# Altium schematic symbol library rcl.SCHLIB: 895 symbols (part 5 of 5)
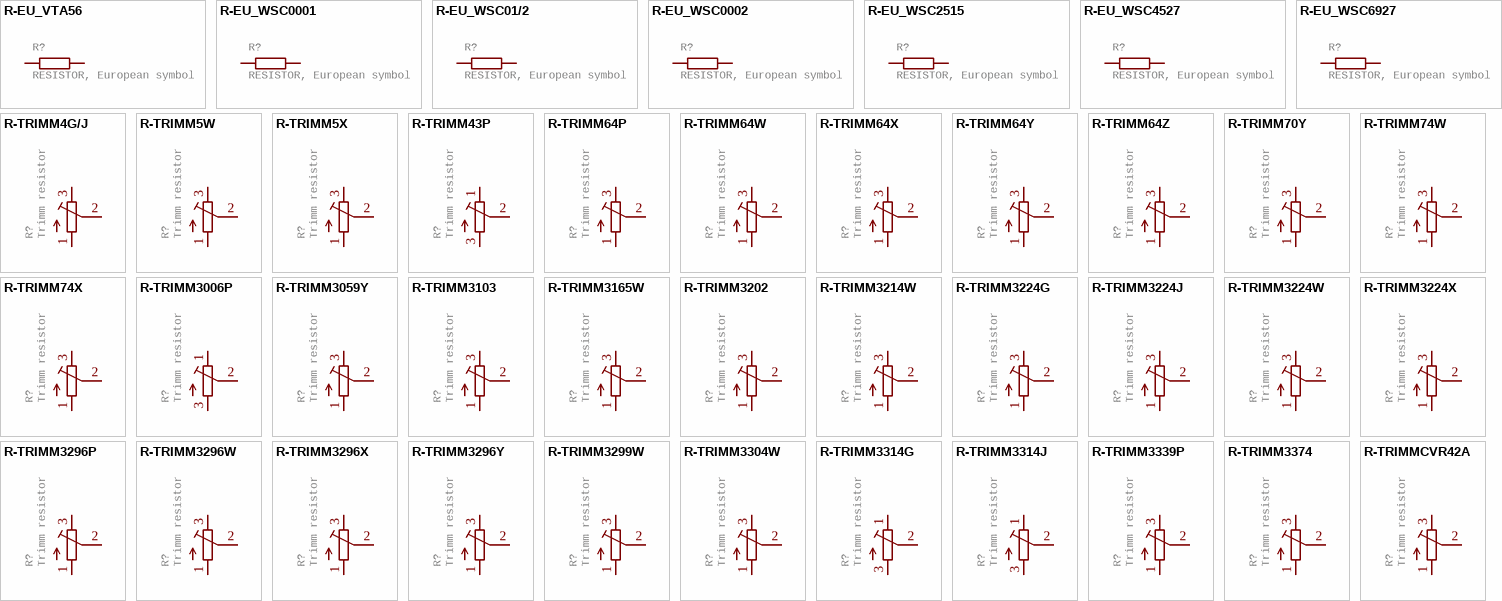
[diagram p26: symbols R-EU_VTA56 to R-TRIMMCVR42A]

## R-TRIMM3224G
designator R?, comment Trimm resistor
GateName_1: G$1; SymbolName_1: R-TRIM; DeviceName: 3224G; DeviceSetName: R-TRIMM; POPULARITY: 0; LibraryName: rcl; Package: RTRIM3224G; SPICEMODEL: X; SPICEPREFIXL: POT
footprint RTRIM3224G
pins: 1 A, 2 S, 3 E

## R-TRIMM3224J
designator R?, comment Trimm resistor
GateName_1: G$1; SymbolName_1: R-TRIM; DeviceName: 3224J; DeviceSetName: R-TRIMM; POPULARITY: 0; LibraryName: rcl; Package: RTRIM3224J; SPICEMODEL: X; SPICEPREFIXL: POT
footprint RTRIM3224J
pins: 1 A, 2 S, 3 E

## R-TRIMM3224W
designator R?, comment Trimm resistor
GateName_1: G$1; SymbolName_1: R-TRIM; DeviceName: 3224W; DeviceSetName: R-TRIMM; POPULARITY: 0; LibraryName: rcl; Package: RTRIM3224W; SPICEMODEL: X; SPICEPREFIXL: POT
footprint RTRIM3224W
pins: 1 A, 2 S, 3 E

## R-TRIMM3224X
designator R?, comment Trimm resistor
GateName_1: G$1; SymbolName_1: R-TRIM; DeviceName: 3224X; DeviceSetName: R-TRIMM; POPULARITY: 0; LibraryName: rcl; Package: RTRIM3224X; SPICEMODEL: X; SPICEPREFIXL: POT
footprint RTRIM3224X
pins: 1 A, 2 S, 3 E

## R-TRIMM3296P
designator R?, comment Trimm resistor
GateName_1: G$1; SymbolName_1: R-TRIM; DeviceName: 3296P; DeviceSetName: R-TRIMM; POPULARITY: 3; LibraryName: rcl; Package: RTRIM3296P; SPICEMODEL: X; SPICEPREFIXL: POT
footprint RTRIM3296P
pins: 1 A, 2 S, 3 E

## R-TRIMM3296W
designator R?, comment Trimm resistor
GateName_1: G$1; SymbolName_1: R-TRIM; DeviceName: 3296W; DeviceSetName: R-TRIMM; POPULARITY: 3; LibraryName: rcl; Package: RTRIM3296W; SPICEMODEL: X; SPICEPREFIXL: POT
footprint RTRIM3296W
pins: 1 A, 2 S, 3 E

## R-TRIMM3296X
designator R?, comment Trimm resistor
GateName_1: G$1; SymbolName_1: R-TRIM; DeviceName: 3296X; DeviceSetName: R-TRIMM; POPULARITY: 3; LibraryName: rcl; Package: RTRIM3296X; SPICEMODEL: X; SPICEPREFIXL: POT
footprint RTRIM3296X
pins: 1 A, 2 S, 3 E

## R-TRIMM3296Y
designator R?, comment Trimm resistor
GateName_1: G$1; SymbolName_1: R-TRIM; DeviceName: 3296Y; DeviceSetName: R-TRIMM; POPULARITY: 1; LibraryName: rcl; Package: RTRIM3296Y; SPICEMODEL: X; SPICEPREFIXL: POT
footprint RTRIM3296Y
pins: 1 A, 2 S, 3 E

## R-TRIMM3299W
designator R?, comment Trimm resistor
GateName_1: G$1; SymbolName_1: R-TRIM; DeviceName: 3299W; DeviceSetName: R-TRIMM; POPULARITY: 0; LibraryName: rcl; Package: RTRIM3299W; SPICEMODEL: X; SPICEPREFIXL: POT
footprint RTRIM3299W
pins: 1 A, 2 S, 3 E

## R-TRIMM3304W
designator R?, comment Trimm resistor
GateName_1: G$1; SymbolName_1: R-TRIM; DeviceName: 3304W; DeviceSetName: R-TRIMM; POPULARITY: 0; LibraryName: rcl; Package: RTRIM3304W; SPICEMODEL: X; SPICEPREFIXL: POT
footprint RTRIM3304W
pins: 1 A, 2 S, 3 E

## R-TRIMM3314G
designator R?, comment Trimm resistor
GateName_1: G$1; SymbolName_1: R-TRIM; DeviceName: 3314G; DeviceSetName: R-TRIMM; POPULARITY: 0; LibraryName: rcl; Package: RTRIM3314G; SPICEMODEL: X; SPICEPREFIXL: POT
footprint RTRIM3314G
pins: 1 E, 2 S, 3 A

## R-TRIMM3314J
designator R?, comment Trimm resistor
GateName_1: G$1; SymbolName_1: R-TRIM; DeviceName: 3314J; DeviceSetName: R-TRIMM; POPULARITY: 0; LibraryName: rcl; Package: RTRIM3314J; SPICEMODEL: X; SPICEPREFIXL: POT
footprint RTRIM3314J
pins: 1 E, 2 S, 3 A

## R-TRIMM3339P
designator R?, comment Trimm resistor
GateName_1: G$1; SymbolName_1: R-TRIM; DeviceName: 3339P; DeviceSetName: R-TRIMM; POPULARITY: 29; LibraryName: rcl; Package: RTRIM3339P; SPICEMODEL: X; SPICEPREFIXL: POT
footprint RTRIM3339P
pins: 1 A, 2 S, 3 E

## R-TRIMM3374
designator R?, comment Trimm resistor
GateName_1: G$1; SymbolName_1: R-TRIM; DeviceName: 3374; DeviceSetName: R-TRIMM; POPULARITY: 0; LibraryName: rcl; Package: RTRIM3374; SPICEMODEL: X; SPICEPREFIXL: POT
footprint RTRIM3374
pins: 1 A, 2 S, 3 E

## R-TRIMMCVR42A
designator R?, comment Trimm resistor
GateName_1: G$1; SymbolName_1: R-TRIM; DeviceName: CVR42A; DeviceSetName: R-TRIMM; POPULARITY: 0; LibraryName: rcl; Package: RTRIMCVR42A; SPICEMODEL: X; SPICEPREFIXL: POT
footprint RTRIMCVR42A
pins: 1 A, 2 S, 3 E

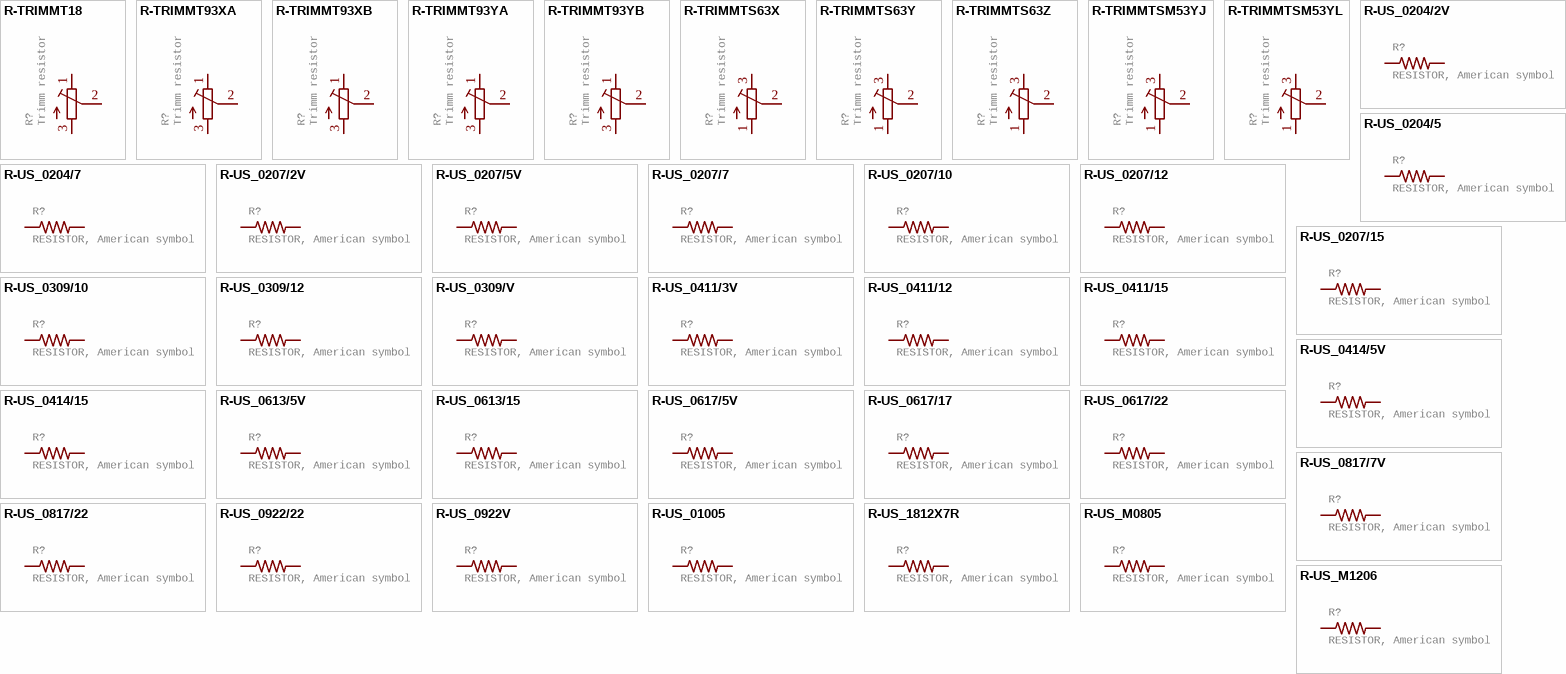
[diagram p20: symbols R-TRIMMT18 to R-US_M1206]

## R-TRIMMT18
designator R?, comment Trimm resistor
GateName_1: G$1; SymbolName_1: R-TRIM; DeviceName: T18; DeviceSetName: R-TRIMM; POPULARITY: 0; LibraryName: rcl; Package: RTRIMT18; SPICEMODEL: X; SPICEPREFIXL: POT
footprint RTRIMT18
pins: 1 E, 2 S, 3 A

## R-TRIMMT93XA
designator R?, comment Trimm resistor
GateName_1: G$1; SymbolName_1: R-TRIM; DeviceName: T93XA; DeviceSetName: R-TRIMM; POPULARITY: 0; LibraryName: rcl; Package: RTRIMT93XA; SPICEMODEL: X; SPICEPREFIXL: POT
footprint RTRIMT93XA
pins: 1 E, 2 S, 3 A

## R-TRIMMT93XB
designator R?, comment Trimm resistor
GateName_1: G$1; SymbolName_1: R-TRIM; DeviceName: T93XB; DeviceSetName: R-TRIMM; POPULARITY: 0; LibraryName: rcl; Package: RTRIMT93XB; SPICEMODEL: X; SPICEPREFIXL: POT
footprint RTRIMT93XB
pins: 1 E, 2 S, 3 A

## R-TRIMMT93YA
designator R?, comment Trimm resistor
GateName_1: G$1; SymbolName_1: R-TRIM; DeviceName: T93YA; DeviceSetName: R-TRIMM; POPULARITY: 2; LibraryName: rcl; Package: RTRIMT93YA; SPICEMODEL: X; SPICEPREFIXL: POT
footprint RTRIMT93YA
pins: 1 E, 2 S, 3 A

## R-TRIMMT93YB
designator R?, comment Trimm resistor
GateName_1: G$1; SymbolName_1: R-TRIM; DeviceName: T93YB; DeviceSetName: R-TRIMM; POPULARITY: 0; LibraryName: rcl; Package: RTRIMT93YB; SPICEMODEL: X; SPICEPREFIXL: POT
footprint RTRIMT93YB
pins: 1 E, 2 S, 3 A

## R-TRIMMTS63X
designator R?, comment Trimm resistor
GateName_1: G$1; SymbolName_1: R-TRIM; DeviceName: TS63X; DeviceSetName: R-TRIMM; POPULARITY: 0; LibraryName: rcl; Package: RTRIMTS63X; SPICEMODEL: X; SPICEPREFIXL: POT
footprint RTRIMTS63X
pins: 1 A, 2 S, 3 E

## R-TRIMMTS63Y
designator R?, comment Trimm resistor
GateName_1: G$1; SymbolName_1: R-TRIM; DeviceName: TS63Y; DeviceSetName: R-TRIMM; POPULARITY: 0; LibraryName: rcl; Package: RTRIMTS63Y; SPICEMODEL: X; SPICEPREFIXL: POT
footprint RTRIMTS63Y
pins: 1 A, 2 S, 3 E

## R-TRIMMTS63Z
designator R?, comment Trimm resistor
GateName_1: G$1; SymbolName_1: R-TRIM; DeviceName: TS63Z; DeviceSetName: R-TRIMM; POPULARITY: 0; LibraryName: rcl; Package: RTRIMTS63Z; SPICEMODEL: X; SPICEPREFIXL: POT
footprint RTRIMTS63Z
pins: 1 A, 2 S, 3 E

## R-TRIMMTSM53YJ
designator R?, comment Trimm resistor
GateName_1: G$1; SymbolName_1: R-TRIM; DeviceName: TSM53YJ; DeviceSetName: R-TRIMM; POPULARITY: 0; LibraryName: rcl; Package: RTRIMTSM53YJ; SPICEMODEL: X; SPICEPREFIXL: POT
footprint RTRIMTSM53YJ
pins: 1 A, 2 S, 3 E

## R-TRIMMTSM53YL
designator R?, comment Trimm resistor
GateName_1: G$1; SymbolName_1: R-TRIM; DeviceName: TSM53YL; DeviceSetName: R-TRIMM; POPULARITY: 0; LibraryName: rcl; Package: RTRIMTSM53YL; SPICEMODEL: X; SPICEPREFIXL: POT
footprint RTRIMTSM53YL
pins: 1 A, 2 S, 3 E

## R-US_0204/2V
designator R?, comment RESISTOR, American symbol
GateName_1: G$1; SymbolName_1: R-US; DeviceName: 0204/2V; DeviceSetName: R-US_; POPULARITY: 0; LibraryName: rcl; Package: 0204V; SPICEPREFIX: R
footprint 0204V
pins: 1, 2

## R-US_0204/5
designator R?, comment RESISTOR, American symbol
GateName_1: G$1; SymbolName_1: R-US; DeviceName: 0204/5; DeviceSetName: R-US_; POPULARITY: 18; LibraryName: rcl; Package: 0204/5; SPICEPREFIX: R
footprint 0204/5
pins: 1, 2

## R-US_0204/7
designator R?, comment RESISTOR, American symbol
GateName_1: G$1; SymbolName_1: R-US; DeviceName: 0204/7; DeviceSetName: R-US_; POPULARITY: 48; LibraryName: rcl; Package: 0204/7; SPICEPREFIX: R
footprint 0204/7
pins: 1, 2

## R-US_0207/2V
designator R?, comment RESISTOR, American symbol
GateName_1: G$1; SymbolName_1: R-US; DeviceName: 0207/2V; DeviceSetName: R-US_; POPULARITY: 0; LibraryName: rcl; Package: 0207/2V; SPICEPREFIX: R
footprint 0207/2V
pins: 1, 2

## R-US_0207/5V
designator R?, comment RESISTOR, American symbol
GateName_1: G$1; SymbolName_1: R-US; DeviceName: 0207/5V; DeviceSetName: R-US_; POPULARITY: 0; LibraryName: rcl; Package: 0207/5V; SPICEPREFIX: R
footprint 0207/5V
pins: 1, 2

## R-US_0207/7
designator R?, comment RESISTOR, American symbol
GateName_1: G$1; SymbolName_1: R-US; DeviceName: 0207/7; DeviceSetName: R-US_; POPULARITY: 22; LibraryName: rcl; Package: 0207/7; SPICEPREFIX: R
footprint 0207/7
pins: 1, 2

## R-US_0207/10
designator R?, comment RESISTOR, American symbol
GateName_1: G$1; SymbolName_1: R-US; DeviceName: 0207/10; DeviceSetName: R-US_; POPULARITY: 36; LibraryName: rcl; Package: 0207/10; SPICEPREFIX: R
footprint 0207/10
pins: 1, 2

## R-US_0207/12
designator R?, comment RESISTOR, American symbol
GateName_1: G$1; SymbolName_1: R-US; DeviceName: 0207/12; DeviceSetName: R-US_; POPULARITY: 3; LibraryName: rcl; Package: 0207/12; SPICEPREFIX: R
footprint 0207/12
pins: 1, 2

## R-US_0207/15
designator R?, comment RESISTOR, American symbol
GateName_1: G$1; SymbolName_1: R-US; DeviceName: 0207/15; DeviceSetName: R-US_; POPULARITY: 0; LibraryName: rcl; Package: 0207/15; SPICEPREFIX: R
footprint 0207/15
pins: 1, 2

## R-US_0309/10
designator R?, comment RESISTOR, American symbol
GateName_1: G$1; SymbolName_1: R-US; DeviceName: 0309/10; DeviceSetName: R-US_; POPULARITY: 0; LibraryName: rcl; Package: 0309/10; SPICEPREFIX: R
footprint 0309/10
pins: 1, 2

## R-US_0309/12
designator R?, comment RESISTOR, American symbol
GateName_1: G$1; SymbolName_1: R-US; DeviceName: 0309/12; DeviceSetName: R-US_; POPULARITY: 8; LibraryName: rcl; Package: 0309/12; SPICEPREFIX: R
footprint 0309/12
pins: 1, 2

## R-US_0309/V
designator R?, comment RESISTOR, American symbol
GateName_1: G$1; SymbolName_1: R-US; DeviceName: 0309/V; DeviceSetName: R-US_; POPULARITY: 0; LibraryName: rcl; Package: 0309V; SPICEPREFIX: R
footprint 0309V
pins: 1, 2

## R-US_0411/3V
designator R?, comment RESISTOR, American symbol
GateName_1: G$1; SymbolName_1: R-US; DeviceName: 0411/3V; DeviceSetName: R-US_; POPULARITY: 0; LibraryName: rcl; Package: 0411V; SPICEPREFIX: R
footprint 0411V
pins: 1, 2

## R-US_0411/12
designator R?, comment RESISTOR, American symbol
GateName_1: G$1; SymbolName_1: R-US; DeviceName: 0411/12; DeviceSetName: R-US_; POPULARITY: 0; LibraryName: rcl; Package: 0411/12; SPICEPREFIX: R
footprint 0411/12
pins: 1, 2

## R-US_0411/15
designator R?, comment RESISTOR, American symbol
GateName_1: G$1; SymbolName_1: R-US; DeviceName: 0411/15; DeviceSetName: R-US_; POPULARITY: 2; LibraryName: rcl; Package: 0411/15; SPICEPREFIX: R
footprint 0411/15
pins: 1, 2

## R-US_0414/5V
designator R?, comment RESISTOR, American symbol
GateName_1: G$1; SymbolName_1: R-US; DeviceName: 0414/5V; DeviceSetName: R-US_; POPULARITY: 0; LibraryName: rcl; Package: 0414V; SPICEPREFIX: R
footprint 0414V
pins: 1, 2

## R-US_0414/15
designator R?, comment RESISTOR, American symbol
GateName_1: G$1; SymbolName_1: R-US; DeviceName: 0414/15; DeviceSetName: R-US_; POPULARITY: 0; LibraryName: rcl; Package: 0414/15; SPICEPREFIX: R
footprint 0414/15
pins: 1, 2

## R-US_0613/5V
designator R?, comment RESISTOR, American symbol
GateName_1: G$1; SymbolName_1: R-US; DeviceName: 0613/5V; DeviceSetName: R-US_; POPULARITY: 0; LibraryName: rcl; Package: P0613V; SPICEPREFIX: R
footprint P0613V
pins: 1, 2

## R-US_0613/15
designator R?, comment RESISTOR, American symbol
GateName_1: G$1; SymbolName_1: R-US; DeviceName: 0613/15; DeviceSetName: R-US_; POPULARITY: 0; LibraryName: rcl; Package: P0613/15; SPICEPREFIX: R
footprint P0613/15
pins: 1, 2

## R-US_0617/5V
designator R?, comment RESISTOR, American symbol
GateName_1: G$1; SymbolName_1: R-US; DeviceName: 0617/5V; DeviceSetName: R-US_; POPULARITY: 0; LibraryName: rcl; Package: 0617V; SPICEPREFIX: R
footprint 0617V
pins: 1, 2

## R-US_0617/17
designator R?, comment RESISTOR, American symbol
GateName_1: G$1; SymbolName_1: R-US; DeviceName: 0617/17; DeviceSetName: R-US_; POPULARITY: 0; LibraryName: rcl; Package: 0617/17; SPICEPREFIX: R
footprint 0617/17
pins: 1, 2

## R-US_0617/22
designator R?, comment RESISTOR, American symbol
GateName_1: G$1; SymbolName_1: R-US; DeviceName: 0617/22; DeviceSetName: R-US_; POPULARITY: 0; LibraryName: rcl; Package: 0617/22; SPICEPREFIX: R
footprint 0617/22
pins: 1, 2

## R-US_0817/7V
designator R?, comment RESISTOR, American symbol
GateName_1: G$1; SymbolName_1: R-US; DeviceName: 0817/7V; DeviceSetName: R-US_; POPULARITY: 0; LibraryName: rcl; Package: P0817V; SPICEPREFIX: R
footprint P0817V
pins: 1, 2

## R-US_0817/22
designator R?, comment RESISTOR, American symbol
GateName_1: G$1; SymbolName_1: R-US; DeviceName: 0817/22; DeviceSetName: R-US_; POPULARITY: 0; LibraryName: rcl; Package: P0817/22; SPICEPREFIX: R
footprint P0817/22
pins: 1, 2

## R-US_0922/22
designator R?, comment RESISTOR, American symbol
GateName_1: G$1; SymbolName_1: R-US; DeviceName: 0922/22; DeviceSetName: R-US_; POPULARITY: 0; LibraryName: rcl; Package: 0922/22; SPICEPREFIX: R
footprint 0922/22
pins: 1, 2

## R-US_0922V
designator R?, comment RESISTOR, American symbol
GateName_1: G$1; SymbolName_1: R-US; DeviceName: 0922V; DeviceSetName: R-US_; POPULARITY: 0; LibraryName: rcl; Package: 0922V; SPICEPREFIX: R
footprint 0922V
pins: 1, 2

## R-US_01005
designator R?, comment RESISTOR, American symbol
GateName_1: G$1; SymbolName_1: R-US; DeviceName: 01005; DeviceSetName: R-US_; POPULARITY: 1; LibraryName: rcl; Package: R01005; SPICEPREFIX: R
footprint R01005
pins: 1, 2

## R-US_1812X7R
designator R?, comment RESISTOR, American symbol
GateName_1: G$1; SymbolName_1: R-US; DeviceName: 1812X7R; DeviceSetName: R-US_; POPULARITY: 0; LibraryName: rcl; Package: 1812X7R; SPICEPREFIX: R
footprint 1812X7R
pins: 1, 2

## R-US_M0805
designator R?, comment RESISTOR, American symbol
GateName_1: G$1; SymbolName_1: R-US; DeviceName: M0805; DeviceSetName: R-US_; POPULARITY: 45; LibraryName: rcl; Package: M0805; SPICEPREFIX: R
footprint M0805
pins: 1, 2

## R-US_M1206
designator R?, comment RESISTOR, American symbol
GateName_1: G$1; SymbolName_1: R-US; DeviceName: M1206; DeviceSetName: R-US_; POPULARITY: 22; LibraryName: rcl; Package: M1206; SPICEPREFIX: R
footprint M1206
pins: 1, 2

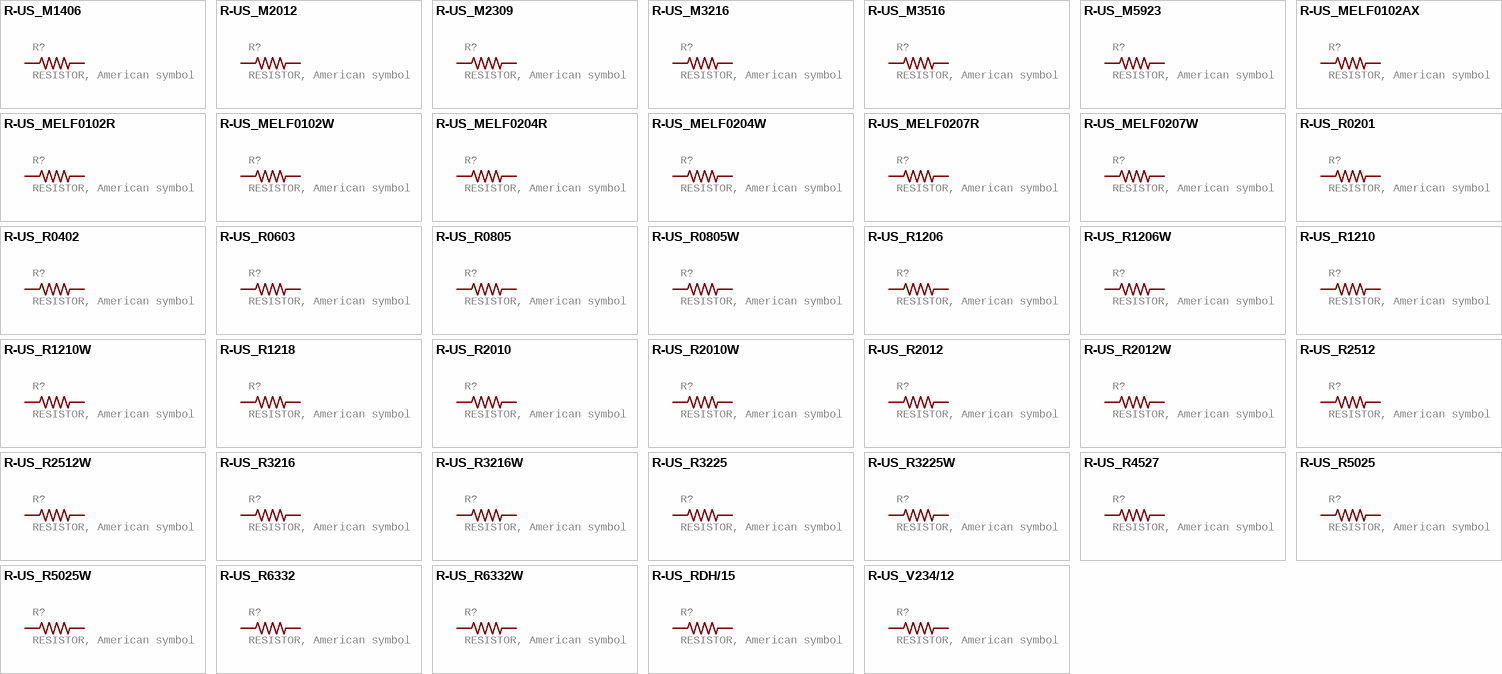
[diagram p21: symbols R-US_M1406 to R-US_V234/12]

## R-US_M1406
designator R?, comment RESISTOR, American symbol
GateName_1: G$1; SymbolName_1: R-US; DeviceName: M1406; DeviceSetName: R-US_; POPULARITY: 0; LibraryName: rcl; Package: M1406; SPICEPREFIX: R
footprint M1406
pins: 1, 2

## R-US_M2012
designator R?, comment RESISTOR, American symbol
GateName_1: G$1; SymbolName_1: R-US; DeviceName: M2012; DeviceSetName: R-US_; POPULARITY: 0; LibraryName: rcl; Package: M2012; SPICEPREFIX: R
footprint M2012
pins: 1, 2

## R-US_M2309
designator R?, comment RESISTOR, American symbol
GateName_1: G$1; SymbolName_1: R-US; DeviceName: M2309; DeviceSetName: R-US_; POPULARITY: 0; LibraryName: rcl; Package: M2309; SPICEPREFIX: R
footprint M2309
pins: 1, 2

## R-US_M3216
designator R?, comment RESISTOR, American symbol
GateName_1: G$1; SymbolName_1: R-US; DeviceName: M3216; DeviceSetName: R-US_; POPULARITY: 0; LibraryName: rcl; Package: M3216; SPICEPREFIX: R
footprint M3216
pins: 1, 2

## R-US_M3516
designator R?, comment RESISTOR, American symbol
GateName_1: G$1; SymbolName_1: R-US; DeviceName: M3516; DeviceSetName: R-US_; POPULARITY: 0; LibraryName: rcl; Package: M3516; SPICEPREFIX: R
footprint M3516
pins: 1, 2

## R-US_M5923
designator R?, comment RESISTOR, American symbol
GateName_1: G$1; SymbolName_1: R-US; DeviceName: M5923; DeviceSetName: R-US_; POPULARITY: 0; LibraryName: rcl; Package: M5923; SPICEPREFIX: R
footprint M5923
pins: 1, 2

## R-US_MELF0102AX
designator R?, comment RESISTOR, American symbol
GateName_1: G$1; SymbolName_1: R-US; DeviceName: MELF0102AX; DeviceSetName: R-US_; POPULARITY: 0; LibraryName: rcl; Package: MINI_MELF-0102AX; SPICEPREFIX: R
footprint MINI_MELF-0102AX
pins: 1, 2

## R-US_MELF0102R
designator R?, comment RESISTOR, American symbol
GateName_1: G$1; SymbolName_1: R-US; DeviceName: MELF0102R; DeviceSetName: R-US_; POPULARITY: 1; LibraryName: rcl; Package: MINI_MELF-0102R; SPICEPREFIX: R
footprint MINI_MELF-0102R
pins: 1, 2

## R-US_MELF0102W
designator R?, comment RESISTOR, American symbol
GateName_1: G$1; SymbolName_1: R-US; DeviceName: MELF0102W; DeviceSetName: R-US_; POPULARITY: 0; LibraryName: rcl; Package: MINI_MELF-0102W; SPICEPREFIX: R
footprint MINI_MELF-0102W
pins: 1, 2

## R-US_MELF0204R
designator R?, comment RESISTOR, American symbol
GateName_1: G$1; SymbolName_1: R-US; DeviceName: MELF0204R; DeviceSetName: R-US_; POPULARITY: 1; LibraryName: rcl; Package: MINI_MELF-0204R; SPICEPREFIX: R
footprint MINI_MELF-0204R
pins: 1, 2

## R-US_MELF0204W
designator R?, comment RESISTOR, American symbol
GateName_1: G$1; SymbolName_1: R-US; DeviceName: MELF0204W; DeviceSetName: R-US_; POPULARITY: 0; LibraryName: rcl; Package: MINI_MELF-0204W; SPICEPREFIX: R
footprint MINI_MELF-0204W
pins: 1, 2

## R-US_MELF0207R
designator R?, comment RESISTOR, American symbol
GateName_1: G$1; SymbolName_1: R-US; DeviceName: MELF0207R; DeviceSetName: R-US_; POPULARITY: 0; LibraryName: rcl; Package: MINI_MELF-0207R; SPICEPREFIX: R
footprint MINI_MELF-0207R
pins: 1, 2

## R-US_MELF0207W
designator R?, comment RESISTOR, American symbol
GateName_1: G$1; SymbolName_1: R-US; DeviceName: MELF0207W; DeviceSetName: R-US_; POPULARITY: 0; LibraryName: rcl; Package: MINI_MELF-0207W; SPICEPREFIX: R
footprint MINI_MELF-0207W
pins: 1, 2

## R-US_R0201
designator R?, comment RESISTOR, American symbol
GateName_1: G$1; SymbolName_1: R-US; DeviceName: R0201; DeviceSetName: R-US_; POPULARITY: 0; LibraryName: rcl; Package: R0201; SPICEPREFIX: R
footprint R0201
pins: 1, 2

## R-US_R0402
designator R?, comment RESISTOR, American symbol
GateName_1: G$1; SymbolName_1: R-US; DeviceName: R0402; DeviceSetName: R-US_; POPULARITY: 34; LibraryName: rcl; Package: R0402; SPICEPREFIX: R
footprint R0402
pins: 1, 2

## R-US_R0603
designator R?, comment RESISTOR, American symbol
GateName_1: G$1; SymbolName_1: R-US; DeviceName: R0603; DeviceSetName: R-US_; POPULARITY: 77; LibraryName: rcl; Package: R0603; SPICEPREFIX: R
footprint R0603
pins: 1, 2

## R-US_R0805
designator R?, comment RESISTOR, American symbol
GateName_1: G$1; SymbolName_1: R-US; DeviceName: R0805; DeviceSetName: R-US_; POPULARITY: 85; LibraryName: rcl; Package: R0805; SPICEPREFIX: R
footprint R0805
pins: 1, 2

## R-US_R0805W
designator R?, comment RESISTOR, American symbol
GateName_1: G$1; SymbolName_1: R-US; DeviceName: R0805W; DeviceSetName: R-US_; POPULARITY: 0; LibraryName: rcl; Package: R0805W; SPICEPREFIX: R
footprint R0805W
pins: 1, 2

## R-US_R1206
designator R?, comment RESISTOR, American symbol
GateName_1: G$1; SymbolName_1: R-US; DeviceName: R1206; DeviceSetName: R-US_; POPULARITY: 19; LibraryName: rcl; Package: R1206; SPICEPREFIX: R
footprint R1206
pins: 1, 2

## R-US_R1206W
designator R?, comment RESISTOR, American symbol
GateName_1: G$1; SymbolName_1: R-US; DeviceName: R1206W; DeviceSetName: R-US_; POPULARITY: 0; LibraryName: rcl; Package: R1206W; SPICEPREFIX: R
footprint R1206W
pins: 1, 2

## R-US_R1210
designator R?, comment RESISTOR, American symbol
GateName_1: G$1; SymbolName_1: R-US; DeviceName: R1210; DeviceSetName: R-US_; POPULARITY: 0; LibraryName: rcl; Package: R1210; SPICEPREFIX: R
footprint R1210
pins: 1, 2

## R-US_R1210W
designator R?, comment RESISTOR, American symbol
GateName_1: G$1; SymbolName_1: R-US; DeviceName: R1210W; DeviceSetName: R-US_; POPULARITY: 0; LibraryName: rcl; Package: R1210W; SPICEPREFIX: R
footprint R1210W
pins: 1, 2

## R-US_R1218
designator R?, comment RESISTOR, American symbol
GateName_1: G$1; SymbolName_1: R-US; DeviceName: R1218; DeviceSetName: R-US_; POPULARITY: 0; LibraryName: rcl; Package: R1218; SPICEPREFIX: R
footprint R1218
pins: 1, 2

## R-US_R2010
designator R?, comment RESISTOR, American symbol
GateName_1: G$1; SymbolName_1: R-US; DeviceName: R2010; DeviceSetName: R-US_; POPULARITY: 0; LibraryName: rcl; Package: R2010; SPICEPREFIX: R
footprint R2010
pins: 1, 2

## R-US_R2010W
designator R?, comment RESISTOR, American symbol
GateName_1: G$1; SymbolName_1: R-US; DeviceName: R2010W; DeviceSetName: R-US_; POPULARITY: 0; LibraryName: rcl; Package: R2010W; SPICEPREFIX: R
footprint R2010W
pins: 1, 2

## R-US_R2012
designator R?, comment RESISTOR, American symbol
GateName_1: G$1; SymbolName_1: R-US; DeviceName: R2012; DeviceSetName: R-US_; POPULARITY: 0; LibraryName: rcl; Package: R2012; SPICEPREFIX: R
footprint R2012
pins: 1, 2

## R-US_R2012W
designator R?, comment RESISTOR, American symbol
GateName_1: G$1; SymbolName_1: R-US; DeviceName: R2012W; DeviceSetName: R-US_; POPULARITY: 0; LibraryName: rcl; Package: R2012W; SPICEPREFIX: R
footprint R2012W
pins: 1, 2

## R-US_R2512
designator R?, comment RESISTOR, American symbol
GateName_1: G$1; SymbolName_1: R-US; DeviceName: R2512; DeviceSetName: R-US_; POPULARITY: 0; LibraryName: rcl; Package: R2512; SPICEPREFIX: R
footprint R2512
pins: 1, 2

## R-US_R2512W
designator R?, comment RESISTOR, American symbol
GateName_1: G$1; SymbolName_1: R-US; DeviceName: R2512W; DeviceSetName: R-US_; POPULARITY: 2; LibraryName: rcl; Package: R2512W; SPICEPREFIX: R
footprint R2512W
pins: 1, 2

## R-US_R3216
designator R?, comment RESISTOR, American symbol
GateName_1: G$1; SymbolName_1: R-US; DeviceName: R3216; DeviceSetName: R-US_; POPULARITY: 0; LibraryName: rcl; Package: R3216; SPICEPREFIX: R
footprint R3216
pins: 1, 2

## R-US_R3216W
designator R?, comment RESISTOR, American symbol
GateName_1: G$1; SymbolName_1: R-US; DeviceName: R3216W; DeviceSetName: R-US_; POPULARITY: 1; LibraryName: rcl; Package: R3216W; SPICEPREFIX: R
footprint R3216W
pins: 1, 2

## R-US_R3225
designator R?, comment RESISTOR, American symbol
GateName_1: G$1; SymbolName_1: R-US; DeviceName: R3225; DeviceSetName: R-US_; POPULARITY: 0; LibraryName: rcl; Package: R3225; SPICEPREFIX: R
footprint R3225
pins: 1, 2

## R-US_R3225W
designator R?, comment RESISTOR, American symbol
GateName_1: G$1; SymbolName_1: R-US; DeviceName: R3225W; DeviceSetName: R-US_; POPULARITY: 0; LibraryName: rcl; Package: R3225W; SPICEPREFIX: R
footprint R3225W
pins: 1, 2

## R-US_R4527
designator R?, comment RESISTOR, American symbol
GateName_1: G$1; SymbolName_1: R-US; DeviceName: R4527; DeviceSetName: R-US_; POPULARITY: 0; LibraryName: rcl; Package: R4527; SPICEPREFIX: R
footprint R4527
pins: 1, 2

## R-US_R5025
designator R?, comment RESISTOR, American symbol
GateName_1: G$1; SymbolName_1: R-US; DeviceName: R5025; DeviceSetName: R-US_; POPULARITY: 0; LibraryName: rcl; Package: R5025; SPICEPREFIX: R
footprint R5025
pins: 1, 2

## R-US_R5025W
designator R?, comment RESISTOR, American symbol
GateName_1: G$1; SymbolName_1: R-US; DeviceName: R5025W; DeviceSetName: R-US_; POPULARITY: 0; LibraryName: rcl; Package: R5025W; SPICEPREFIX: R
footprint R5025W
pins: 1, 2

## R-US_R6332
designator R?, comment RESISTOR, American symbol
GateName_1: G$1; SymbolName_1: R-US; DeviceName: R6332; DeviceSetName: R-US_; POPULARITY: 0; LibraryName: rcl; Package: R6332; SPICEPREFIX: R
footprint R6332
pins: 1, 2

## R-US_R6332W
designator R?, comment RESISTOR, American symbol
GateName_1: G$1; SymbolName_1: R-US; DeviceName: R6332W; DeviceSetName: R-US_; POPULARITY: 0; LibraryName: rcl; Package: R6332W; SPICEPREFIX: R
footprint R6332W
pins: 1, 2

## R-US_RDH/15
designator R?, comment RESISTOR, American symbol
GateName_1: G$1; SymbolName_1: R-US; DeviceName: RDH/15; DeviceSetName: R-US_; POPULARITY: 0; LibraryName: rcl; Package: RDH/15; SPICEPREFIX: R
footprint RDH/15
pins: 1, 2

## R-US_V234/12
designator R?, comment RESISTOR, American symbol
GateName_1: G$1; SymbolName_1: R-US; DeviceName: V234/12; DeviceSetName: R-US_; POPULARITY: 0; LibraryName: rcl; Package: V234/12; SPICEPREFIX: R
footprint V234/12
pins: 1, 2

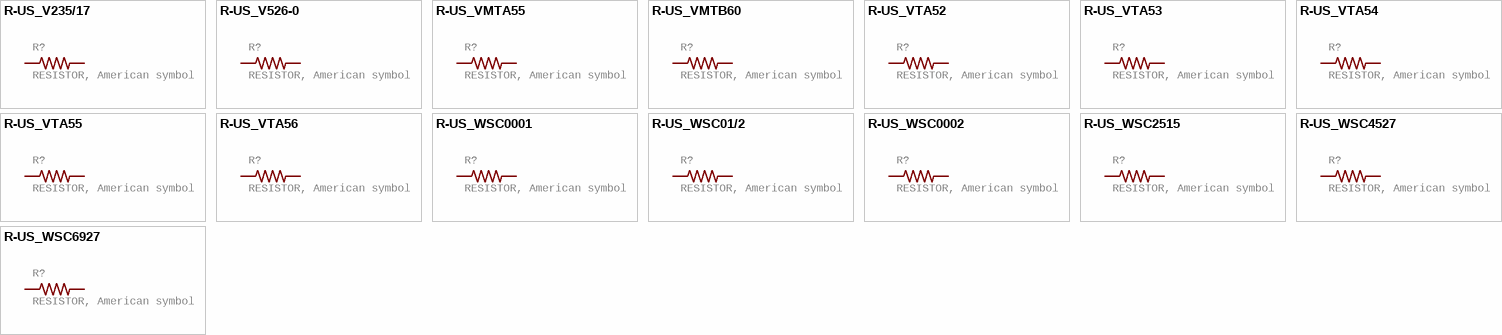
[diagram p22: symbols R-US_V235/17 to R-US_WSC6927]

## R-US_V235/17
designator R?, comment RESISTOR, American symbol
GateName_1: G$1; SymbolName_1: R-US; DeviceName: V235/17; DeviceSetName: R-US_; POPULARITY: 0; LibraryName: rcl; Package: V235/17; SPICEPREFIX: R
footprint V235/17
pins: 1, 2

## R-US_V526-0
designator R?, comment RESISTOR, American symbol
GateName_1: G$1; SymbolName_1: R-US; DeviceName: V526-0; DeviceSetName: R-US_; POPULARITY: 0; LibraryName: rcl; Package: V526-0; SPICEPREFIX: R
footprint V526-0
pins: 1, 2

## R-US_VMTA55
designator R?, comment RESISTOR, American symbol
GateName_1: G$1; SymbolName_1: R-US; DeviceName: VMTA55; DeviceSetName: R-US_; POPULARITY: 0; LibraryName: rcl; Package: VMTA55; SPICEPREFIX: R
footprint VMTA55
pins: 1, 2

## R-US_VMTB60
designator R?, comment RESISTOR, American symbol
GateName_1: G$1; SymbolName_1: R-US; DeviceName: VMTB60; DeviceSetName: R-US_; POPULARITY: 0; LibraryName: rcl; Package: VMTB60; SPICEPREFIX: R
footprint VMTB60
pins: 1, 2

## R-US_VTA52
designator R?, comment RESISTOR, American symbol
GateName_1: G$1; SymbolName_1: R-US; DeviceName: VTA52; DeviceSetName: R-US_; POPULARITY: 3; LibraryName: rcl; Package: VTA52; SPICEPREFIX: R
footprint VTA52
pins: 1, 2

## R-US_VTA53
designator R?, comment RESISTOR, American symbol
GateName_1: G$1; SymbolName_1: R-US; DeviceName: VTA53; DeviceSetName: R-US_; POPULARITY: 0; LibraryName: rcl; Package: VTA53; SPICEPREFIX: R
footprint VTA53
pins: 1, 2

## R-US_VTA54
designator R?, comment RESISTOR, American symbol
GateName_1: G$1; SymbolName_1: R-US; DeviceName: VTA54; DeviceSetName: R-US_; POPULARITY: 0; LibraryName: rcl; Package: VTA54; SPICEPREFIX: R
footprint VTA54
pins: 1, 2

## R-US_VTA55
designator R?, comment RESISTOR, American symbol
GateName_1: G$1; SymbolName_1: R-US; DeviceName: VTA55; DeviceSetName: R-US_; POPULARITY: 0; LibraryName: rcl; Package: VTA55; SPICEPREFIX: R
footprint VTA55
pins: 1, 2

## R-US_VTA56
designator R?, comment RESISTOR, American symbol
GateName_1: G$1; SymbolName_1: R-US; DeviceName: VTA56; DeviceSetName: R-US_; POPULARITY: 0; LibraryName: rcl; Package: VTA56; SPICEPREFIX: R
footprint VTA56
pins: 1, 2

## R-US_WSC0001
designator R?, comment RESISTOR, American symbol
GateName_1: G$1; SymbolName_1: R-US; DeviceName: WSC0001; DeviceSetName: R-US_; POPULARITY: 0; LibraryName: rcl; Package: WSC0001; SPICEPREFIX: R
footprint WSC0001
pins: 1, 2

## R-US_WSC01/2
designator R?, comment RESISTOR, American symbol
GateName_1: G$1; SymbolName_1: R-US; DeviceName: WSC01/2; DeviceSetName: R-US_; POPULARITY: 0; LibraryName: rcl; Package: WSC01/2; SPICEPREFIX: R
footprint WSC01/2
pins: 1, 2

## R-US_WSC0002
designator R?, comment RESISTOR, American symbol
GateName_1: G$1; SymbolName_1: R-US; DeviceName: WSC0002; DeviceSetName: R-US_; POPULARITY: 0; LibraryName: rcl; Package: WSC0002; SPICEPREFIX: R
footprint WSC0002
pins: 1, 2

## R-US_WSC2515
designator R?, comment RESISTOR, American symbol
GateName_1: G$1; SymbolName_1: R-US; DeviceName: WSC2515; DeviceSetName: R-US_; POPULARITY: 0; LibraryName: rcl; Package: WSC2515; SPICEPREFIX: R
footprint WSC2515
pins: 1, 2

## R-US_WSC4527
designator R?, comment RESISTOR, American symbol
GateName_1: G$1; SymbolName_1: R-US; DeviceName: WSC4527; DeviceSetName: R-US_; POPULARITY: 0; LibraryName: rcl; Package: WSC4527; SPICEPREFIX: R
footprint WSC4527
pins: 1, 2

## R-US_WSC6927
designator R?, comment RESISTOR, American symbol
GateName_1: G$1; SymbolName_1: R-US; DeviceName: WSC6927; DeviceSetName: R-US_; POPULARITY: 0; LibraryName: rcl; Package: WSC6927; SPICEPREFIX: R
footprint WSC6927
pins: 1, 2